# EAGLE library part HEADER06X02 (library custom)
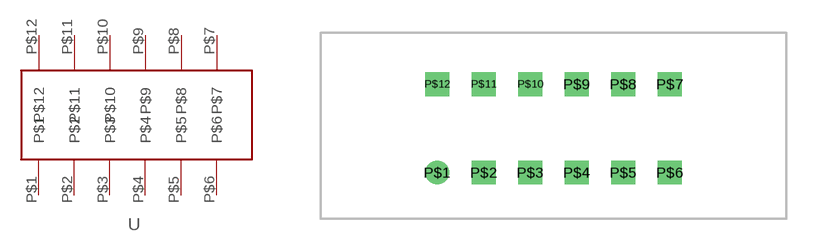
[diagram p27: symbol with the pads of HEADER06X02_CARD_FEMALE_.1; footprint HEADER06X02_CARD_FEMALE_.1]

Designator prefix -

## HEADER06X02  [HEADER06X02_CARD_FEMALE_.1]
P$1  P$1
P$2  P$2
P$3  P$3
P$4  P$4
P$5  P$5
P$6  P$6
P$7  P$7
P$8  P$8
P$9  P$9
P$10  P$10
P$11  P$11
P$12  P$12

## Footprint HEADER06X02_CARD_FEMALE_.1 (pad centres in mm)
drill 0.8 round: P$1 -6.35,-2.54
drill 0.8 square: P$2 -3.81,-2.54; P$3 -1.27,-2.54; P$4 1.27,-2.54; P$5 3.81,-2.54; P$6 6.35,-2.54; P$7 6.35,2.286; P$8 3.81,2.286; P$9 1.27,2.286; P$10 -1.27,2.286; P$11 -3.81,2.286; P$12 -6.35,2.286